# Altium schematic symbol library SCH - POWER - MODULE - TI TPSM82816.SCHLIB: 1 symbol
Pins are listed as number, name and electrical type; pins without a type are passive.

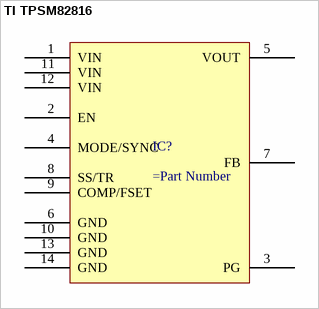
[diagram p0: symbol TI TPSM82816]

## TI TPSM82816
designator IC?
pins: 1 VIN, 2 EN, 3 PG, 4 MODE/SYNC, 5 VOUT, 6 GND, 7 FB, 8 SS/TR, 9 COMP/FSET, 10 GND, 11 VIN, 12 VIN, 13 GND, 14 GND